# EAGLE library part IC_MAX3232 (library psas)
RS232 Dual Transciever
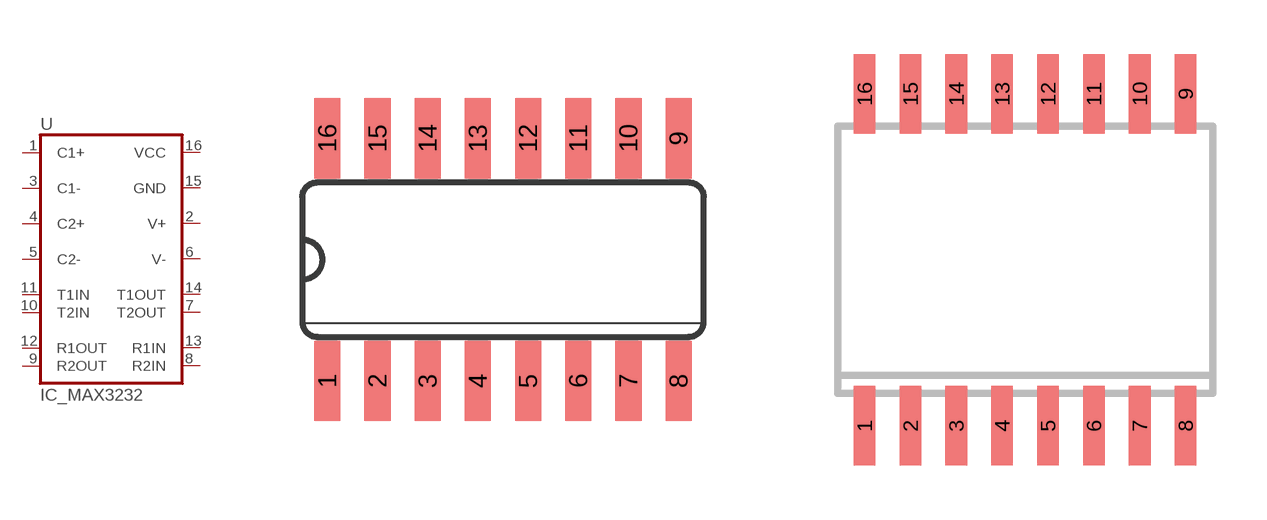
[diagram p35: symbol with the pads of SO16; footprints SO16, SO16W]

Designator prefix U

## IC_MAX3232D  [SO16]
1  C1+  pas
2  V+  pas
3  C1-  pas
4  C2+  pas
5  C2-  pas
6  V-  pas
7  T2OUT  out
8  R2IN  in
9  R2OUT  out
10  T2IN  in
11  T1IN  in
12  R1OUT  out
13  R1IN  in
14  T1OUT  out
15  GND  pas
16  VCC  pas

## IC_MAX3232DW  [SO16W]
Pads as for SO16

## Footprint SO16 (pad centres in mm)
SO16 150 mil
smd 0.66 x 2.032: 1 -4.445,-3.073; 2 -3.175,-3.073; 3 -1.905,-3.073; 4 -0.635,-3.073; 5 0.635,-3.073; 6 1.905,-3.073; 7 3.175,-3.073; 8 4.445,-3.073; 9 4.445,3.073; 10 3.175,3.073; 11 1.905,3.073; 12 0.635,3.073; 13 -0.635,3.073; 14 -1.905,3.073; 15 -3.175,3.073; 16 -4.445,3.073

## Footprint SO16W (pad centres in mm)
16 Pin SMALL OUTLINE INTEGRATED CIRCUIT wide body 7.5 mm / JEDEC MS-013AA
smd 0.6 x 2.2: 1 -4.445,-4.6; 2 -3.175,-4.6; 3 -1.905,-4.6; 4 -0.635,-4.6; 5 0.635,-4.6; 6 1.905,-4.6; 7 3.175,-4.6; 8 4.445,-4.6; 9 4.445,4.6; 10 3.175,4.6; 11 1.905,4.6; 12 0.635,4.6; 13 -0.635,4.6; 14 -1.905,4.6; 15 -3.175,4.6; 16 -4.445,4.6